# Altium integrated library WE-SECF_rev15a.intlib: 15 symbols
Pins are listed as number, name and electrical type; pins without a type are passive.

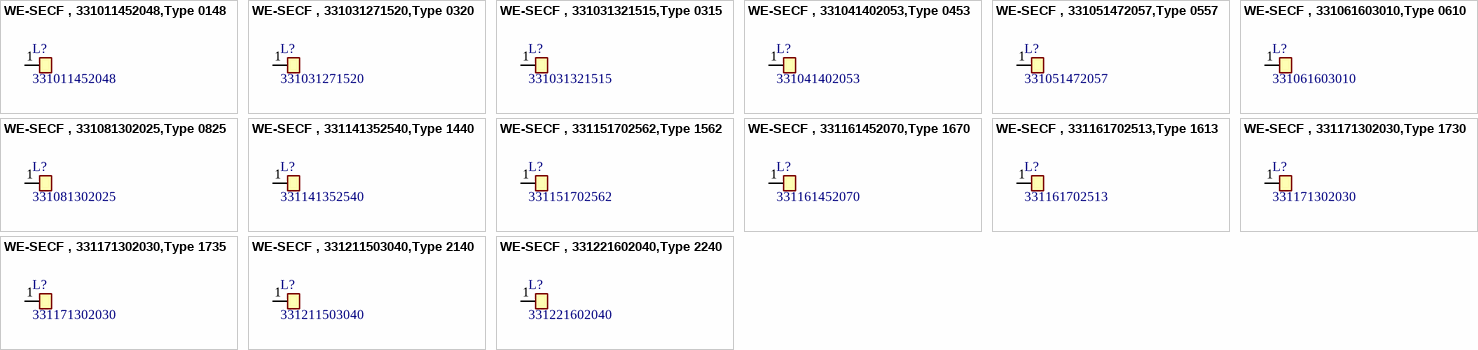
[diagram p0: symbols WE-SECF , 331011452048,Type 0148 to WE-SECF , 331221602040,Type 2240]

## WE-SECF , 331011452048,Type 0148
designator L?, comment 331011452048
SMD EMI Contact Finger ,WE-SECF; Manufacturer: Würth Elektronik eiSos GmbH; PartNo: 331011452048; ComponentLink1Description: Manufacturer; ComponentLink1URL: http://www.we-online.de; Created by: Christin Otto; Created Date: Mar 2013; ComponentLink2Description: Datasheet; ComponentLink2URL: http://katalog.we-online.de/pbs/datasheet/331011452048.pdf
footprint WE-SEFC-0148 (SMD EMI Contact Finger, 1-Lead, Body 4.6x2.0mm)
pins: 1

## WE-SECF , 331031271520,Type 0320
designator L?, comment 331031271520
SMD EMI Contact Finger ,WE-SECF; Manufacturer: Würth Elektronik eiSos GmbH; PartNo: 331031271520; ComponentLink1Description: Manufacturer; ComponentLink1URL: http://www.we-online.de; Created by: Christin Otto; Created Date: Mar 2013; ComponentLink2Description: Datasheet; ComponentLink2URL: http://katalog.we-online.de/pbs/datasheet/331031271520.pdf
footprint WE-SEFC-0320 (SMD EMI Contact Finger, 1-Lead, Body 2.70x1.50mm)
pins: 1

## WE-SECF , 331031321515,Type 0315
designator L?, comment 331031321515
SMD EMI Contact Finger ,WE-SECF; Manufacturer: Würth Elektronik eiSos GmbH; PartNo: 331031321515; ComponentLink1Description: Manufacturer; ComponentLink1URL: http://www.we-online.de; Created by: Christin Otto; Created Date: Mar 2013; ComponentLink2Description: Datasheet; ComponentLink2URL: http://katalog.we-online.de/pbs/datasheet/331031321515.pdf
footprint WE-SEFC-0315 (SMD EMI Contact Finger, 1-Lead, Body 3.2x1.5mm)
pins: 1

## WE-SECF , 331041402053,Type 0453
designator L?, comment 331041402053
SMD EMI Contact Finger ,WE-SECF; Manufacturer: Würth Elektronik eiSos GmbH; PartNo: 331041402053; ComponentLink1Description: Manufacturer; ComponentLink1URL: http://www.we-online.de; Created by: Christin Otto; Created Date: Mar 2013; ComponentLink2Description: Datasheet; ComponentLink2URL: http://katalog.we-online.de/pbs/datasheet/331041402053.pdf
footprint WE-SEFC-0453 (SMD EMI Contact Finger, 1-Lead, Body 4.10x2.0mm)
pins: 1

## WE-SECF , 331051472057,Type 0557
designator L?, comment 331051472057
SMD EMI Contact Finger ,WE-SECF; Manufacturer: Würth Elektronik eiSos GmbH; PartNo: 331051472057; ComponentLink1Description: Manufacturer; ComponentLink1URL: http://www.we-online.de; Created by: Christin Otto; Created Date: Mar 2013; ComponentLink2Description: Datasheet; ComponentLink2URL: http://katalog.we-online.de/pbs/datasheet/331051472057.pdf
footprint WE-SEFC-0557 (SMD EMI Contact Finger, 1-Lead, Body 4.70x2.0mm)
pins: 1

## WE-SECF , 331061603010,Type 0610
designator L?, comment 331061603010
SMD EMI Contact Finger ,WE-SECF; Manufacturer: Würth Elektronik eiSos GmbH; PartNo: 331061603010; ComponentLink1Description: Manufacturer; ComponentLink1URL: http://www.we-online.de; Created by: Christin Otto; Created Date: Mar 2013; ComponentLink2Description: Datasheet; ComponentLink2URL: http://katalog.we-online.de/pbs/datasheet/331061603010.pdf
footprint WE-SEFC-0610 (SMD EMI Contact Finger, 1-Lead, Body 6.0x3.0mm)
pins: 1

## WE-SECF , 331081302025,Type 0825
designator L?, comment 331081302025
SMD EMI Contact Finger ,WE-SECF; Manufacturer: Würth Elektronik eiSos GmbH; PartNo: 331081302025; ComponentLink1Description: Manufacturer; ComponentLink1URL: http://www.we-online.de; Created by: Christin Otto; Created Date: Mar 2013; ComponentLink2Description: Datasheet; ComponentLink2URL: http://katalog.we-online.de/pbs/datasheet/331081302025.pdf
footprint WE-SEFC-0825 (SMD EMI Contact Finger, 1-Lead, Body 3.00x2.0mm)
pins: 1

## WE-SECF , 331141352540,Type 1440
designator L?, comment 331141352540
SMD EMI Contact Finger ,WE-SECF; Manufacturer: Würth Elektronik eiSos GmbH; PartNo: 331141352540; ComponentLink1Description: Manufacturer; ComponentLink1URL: http://www.we-online.de; Created by: Christin Otto; Created Date: Mar 2013; ComponentLink2Description: Datasheet; ComponentLink2URL: http://katalog.we-online.de/pbs/datasheet/331141352540.pdf
footprint WE-SEFC-1440 (SMD EMI Contact Finger, 1-Lead, Body 3.50x2.50mm)
pins: 1

## WE-SECF , 331151702562,Type 1562
designator L?, comment 331151702562
SMD EMI Contact Finger ,WE-SECF; Manufacturer: Würth Elektronik eiSos GmbH; PartNo: 331151702562; ComponentLink1Description: Manufacturer; ComponentLink1URL: http://www.we-online.de; Created by: Christin Otto; Created Date: Mar 2013; ComponentLink2Description: Datasheet; ComponentLink2URL: http://katalog.we-online.de/pbs/datasheet/331151702562.pdf
footprint WE-SEFC-1562 (SMD EMI Contact Finger, 1-Lead, Body 7.15x2.50mm)
pins: 1

## WE-SECF , 331161452070,Type 1670
designator L?, comment 331161452070
SMD EMI Contact Finger ,WE-SECF; Manufacturer: Würth Elektronik eiSos GmbH; PartNo: 331161452070; ComponentLink1Description: Manufacturer; ComponentLink1URL: http://www.we-online.de; Created by: Christin Otto; Created Date: Mar 2013; ComponentLink2Description: Datasheet; ComponentLink2URL: http://katalog.we-online.de/pbs/datasheet/331161452070.pdf
footprint WE-SEFC-1670 (SMD EMI Contact Finger, 1-Lead, Body 4.50x2.0mm)
pins: 1

## WE-SECF , 331161702513,Type 1613
designator L?, comment 331161702513
SMD EMI Contact Finger ,WE-SECF; Manufacturer: Würth Elektronik eiSos GmbH; PartNo: 331161702513; ComponentLink1Description: Manufacturer; ComponentLink1URL: http://www.we-online.de; Created by: Christin Otto; Created Date: Mar 2013; ComponentLink2Description: Datasheet; ComponentLink2URL: http://katalog.we-online.de/pbs/datasheet/331161702513.pdf
footprint WE-SEFC-1613 (SMD EMI Contact Finger, 1-Lead, Body 7.00x2.50mm)
pins: 1

## WE-SECF , 331171302030,Type 1730
designator L?, comment 331171302030
SMD EMI Contact Finger ,WE-SECF; Manufacturer: Würth Elektronik eiSos GmbH; PartNo: 331171302030; ComponentLink1Description: Manufacturer; ComponentLink1URL: http://www.we-online.de; Created by: Christin Otto; Created Date: Mar 2013; ComponentLink2Description: Datasheet; ComponentLink2URL: http://katalog.we-online.de/pbs/datasheet/331171302030.pdf
footprint WE-SEFC-1730 (SMD EMI Contact Finger, 1-Lead, Body 3.15x2.0mm)
pins: 1

## WE-SECF , 331171302030,Type 1735
designator L?, comment 331171302030
SMD EMI Contact Finger ,WE-SECF; Manufacturer: Würth Elektronik eiSos GmbH; PartNo: 331171302030; ComponentLink1Description: Manufacturer; ComponentLink1URL: http://www.we-online.de; Created by: Christin Otto; Created Date: Mar 2013; ComponentLink2Description: Datasheet; ComponentLink2URL: http://katalog.we-online.de/pbs/datasheet/331171302030.pdf
footprint WE-SEFC-1735 (SMD EMI Contact Finger, 1-Lead, Body 3.00x2.00mm)
pins: 1

## WE-SECF , 331211503040,Type 2140
designator L?, comment 331211503040
SMD EMI Contact Finger ,WE-SECF; Manufacturer: Würth Elektronik eiSos GmbH; PartNo: 331211503040; ComponentLink1Description: Manufacturer; ComponentLink1URL: http://www.we-online.de; Created by: Christin Otto; Created Date: Mar 2013; ComponentLink2Description: Datasheet; ComponentLink2URL: http://katalog.we-online.de/pbs/datasheet/331211503040.pdf
footprint WE-SEFC-2140 (SMD EMI Contact Finger, 1-Lead, Body 5.0x3.0mm)
pins: 1

## WE-SECF , 331221602040,Type 2240
designator L?, comment 331221602040
SMD EMI Contact Finger ,WE-SECF; Manufacturer: Würth Elektronik eiSos GmbH; PartNo: 331221602040; ComponentLink1Description: Manufacturer; ComponentLink1URL: http://www.we-online.de; Created by: Christin Otto; Created Date: Mar 2013; ComponentLink2Description: Datasheet; ComponentLink2URL: http://katalog.we-online.de/pbs/datasheet/331221602040.pdf
footprint WE-SEFC-2240 (SMD EMI Contact Finger, 1-Lead, Body 6.0x2.0mm)
pins: 1